# Altium schematic symbol library Datalogger.SchLib: 45 symbols
Pins are listed as number, name and electrical type; pins without a type are passive.

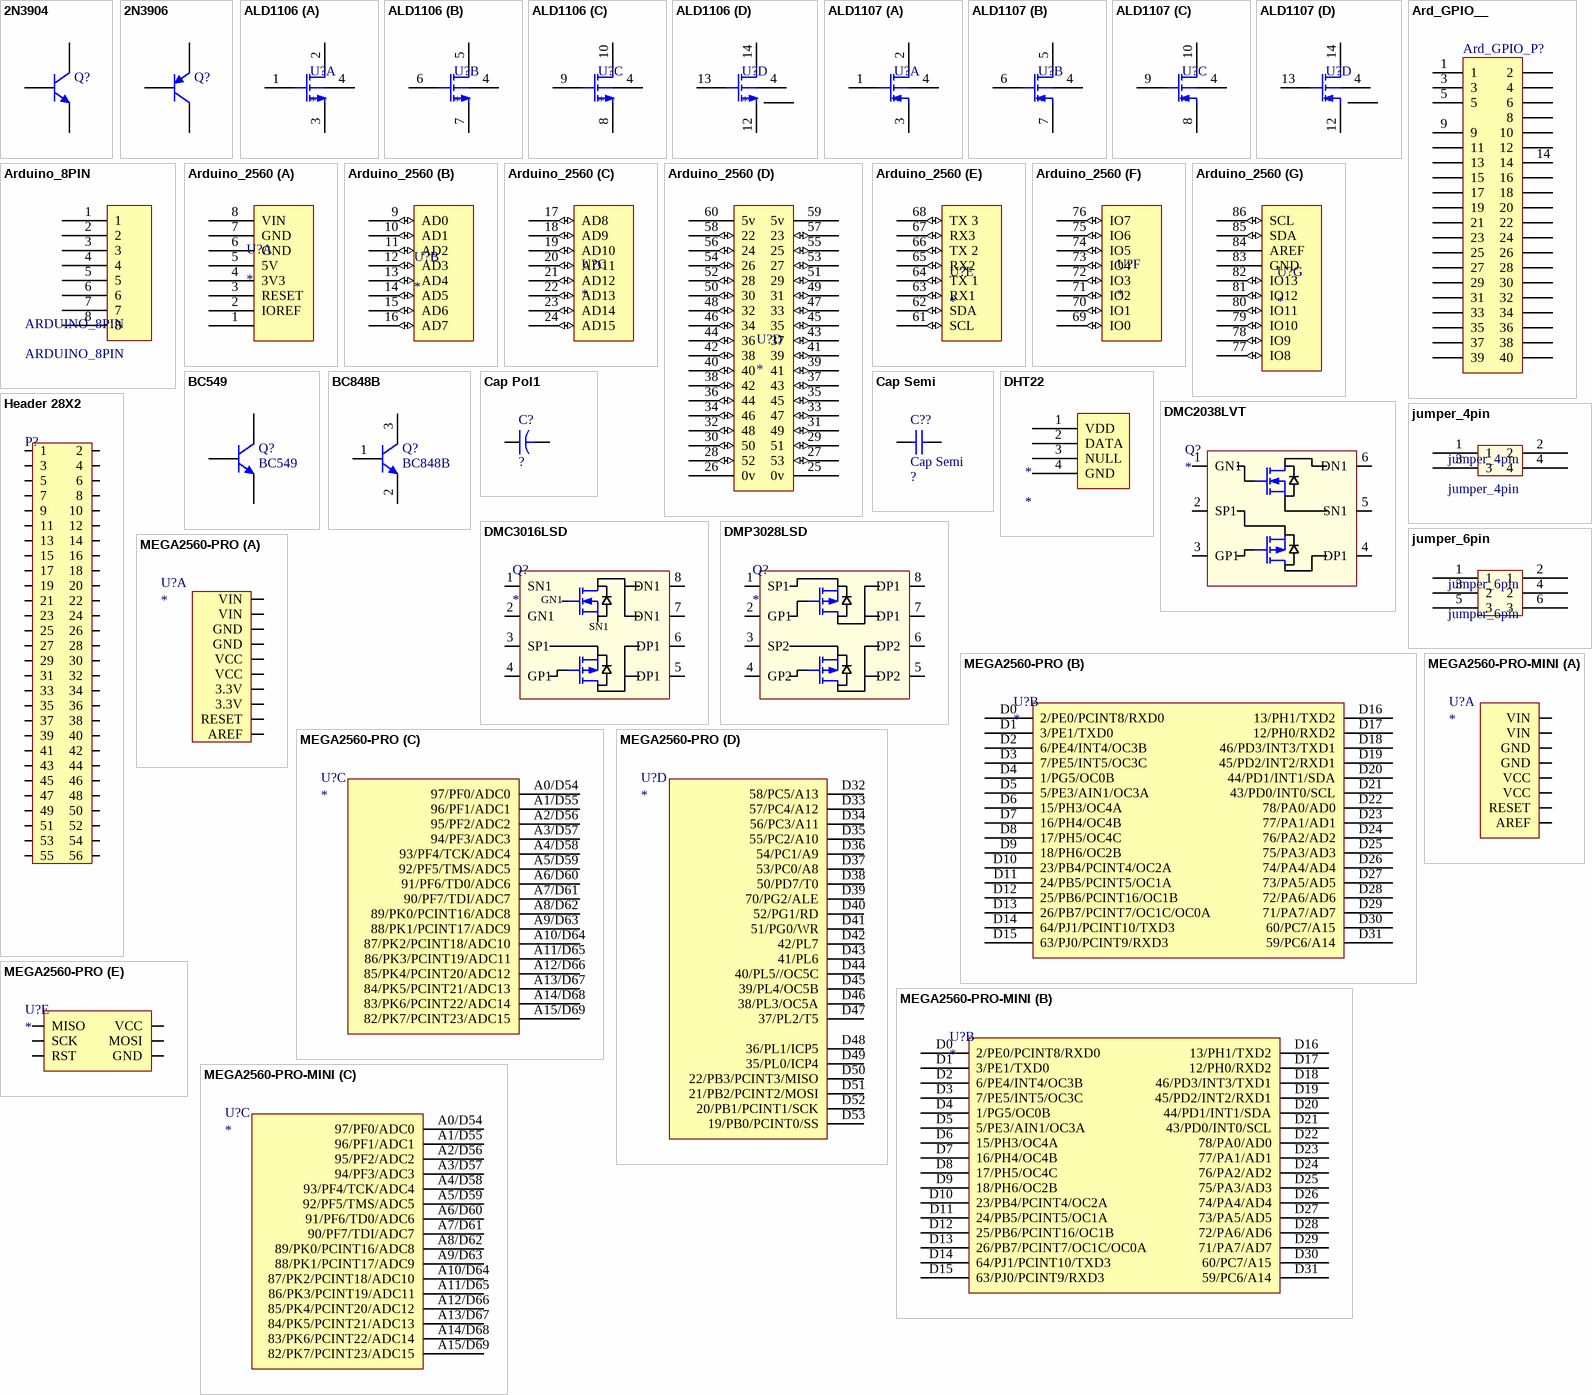
[diagram p0: symbols 2N3904 to MEGA2560-PRO-MINI]

## 2N3904
designator Q?
NPN General Purpose Amplifier; Published: 8-Jun-2000; LatestRevisionDate: 15-Jan-2003; LatestRevisionNote: PCB Footprint 'BCY-W3/D4.7' replaced; DatasheetVersion: 1997; PackageVersion: Sep-1998; PackageReference: TO-92A; Publisher: Altium Limited; PackageDescription: TO, Flat Index; 3 In-Line, Axial Leads; Body Dia. 4.5mm; Leads 0.51 x 0.48 mm (max); ComponentLink1Description: Manufacturer Link; ComponentLink1URL: http://www.fairchildsemi.com/; ComponentLink2Description: Datasheet; ComponentLink2URL: http://www.fairchildsemi.com/ds/2N%2F2N3904.pdf
simulation model 2N3904 (NPN)
signal-integrity model 2N3904
footprint TO-92A_transistor (TO, Flat Index; 3 In-Line, Axial Leads; Body Dia. 4.5mm; Leads 0.51 x 0.48 mm (max))
pins: 1 E, 2 B, 3 C

## 2N3906
designator Q?
PNP General Purpose Amplifier; Published: 8-Jun-2000; LatestRevisionDate: 15-Jan-2003; LatestRevisionNote: PCB Footprint 'BCY-W3/D4.7' replaced; DatasheetVersion: 1997; PackageVersion: Sep-1998; PackageReference: TO-92A; Publisher: Altium Limited; PackageDescription: TO, Flat Index; 3 In-Line, Axial Leads; Body Dia. 4.5mm; Leads 0.51 x 0.48 mm (max); ComponentLink1Description: Manufacturer Link; ComponentLink1URL: http://www.fairchildsemi.com/; ComponentLink2Description: Datasheet; ComponentLink2URL: http://www.fairchildsemi.com/ds/2N%2F2N3906.pdf
simulation model 2N3906 (PNP)
signal-integrity model 2N3906
footprint TO-92A_transistor (TO, Flat Index; 3 In-Line, Axial Leads; Body Dia. 4.5mm; Leads 0.51 x 0.48 mm (max))
pins: 1 E, 2 B, 3 C

## ALD1106
designator U?
footprint PDIP-14 (PDIP, 14-Leads, Body 18.29x6.35mm, Pitch 2.79mm, IPC Medium Density)
part A pins: 1 G, 2 D, 3 S, 4 S
part B pins: 4 S, 5 D, 6 G, 7 S
part C pins: 4 S, 8 S, 9 G, 10 D
part D pins: 4 S, 11 NC, 12 S, 13 G, 14 D

## ALD1107
designator U?
footprint PDIP-14 (PDIP, 14-Leads, Body 18.29x6.35mm, Pitch 2.79mm, IPC Medium Density)
part A pins: 1 G, 2 D, 3 S, 4 S
part B pins: 4 S, 5 D, 6 G, 7 S
part C pins: 4 S, 8 S, 9 G, 10 D
part D pins: 4 S, 11 NC, 12 S, 13 G, 14 D

## Ard_GPIO__
designator Ard_GPIO_P?, comment Ard_GPIO_P?  (value not drawn)
Header, 20-Pin, Dual row; LatestRevisionDate: 17-Jul-2002; LatestRevisionNote: Re-released for DXP Platform.; Publisher: Altium Limited
signal-integrity model Connector
footprint Ard_GPIO_HDR2X20 (Connector; Header; 20x2 Position)
pins: 1, 2, 3, 4, 5, 6, 7 hidden, 8, 9, 10, 11, 12, 13, 14, 15, 16, 17, 18, 19, 20, 21, 22, 23, 24, 25, 26, 27, 28, 29, 30, 31, 32, 33, 34, 35, 36, 37, 38, 39, 40

## Arduino_8PIN
designator ARDUINO_8PIN, comment ARDUINO_8PIN
footprint arduino_8pin (8 pin arduino)
pins: 1, 2, 3, 4, 5, 6, 7, 8

## Arduino_2560
designator U?
footprint Arduino_2560
part A pins: 1, 2 IOREF (power), 3 RESET, 4 3V3 (power), 5 5V (power), 6 GND (power), 7 GND (power), 8 VIN (power)
part B pins: 9 AD0 (io), 10 AD1 (io), 11 AD2 (io), 12 AD3 (io), 13 AD4 (io), 14 AD5 (io), 15 AD6 (io), 16 AD7 (io)
part C pins: 17 AD8 (io), 18 AD9 (io), 19 AD10 (io), 20 AD11 (io), 21 AD12 (io), 22 AD13 (io), 23 AD14 (io), 24 AD15 (io)
part D pins: 25 0v (power), 26 0v (power), 27 53 (io) "Digital 53", 28 52 (io) "Digital 52", 29 51 (io) "Digital 51", 30 50 (io) "Digital 50", 31 49 (io) "Digital 49", 32 48 (io) "Digital 48", 33 47 (io) "Digital 47", 34 46 (io) "Digital 46", 35 45 (io) "Digital 45", 36 44 (io) "Digital 44", 37 43 (io) "Digital 43", 38 42 (io) "Digital 42", 39 41 (io) "Digital 41", 40 (io) "Digital 40", 41 39 (io) "Digital 39", 42 38 (io) "Digital 38", 43 37 (io) "Digital 37", 44 36 (io) "Digital 36", 45 35 (io) "Digital 35", 46 34 (io) "Digital 34", 47 33 (io) "Digital 33", 48 32 (io) "Digital 32", 49 31 (io) "Digital 31", 50 30 (io) "Digital 30", 51 29 (io) "Digital 29", 52 28 (io) "Digital 28", 53 27 (io) "Digital 27", 54 26 (io) "Digital 26", 55 25 (io) "Digital 25", 56 24 (io) "Digital 24", 57 23 (io) "Digital 23", 58 22 (io) "Digital 22", 59 5v (power), 60 5v (power)
part E pins: 61 SCL (io), 62 SDA (io), 63 RX1 (io), 64 TX 1 (io), 65 RX2 (io), 66 TX 2 (io), 67 RX3 (io), 68 TX 3 (io)
part F pins: 69 IO0 (io), 70 IO1 (io), 71 IO2 (io), 72 IO3 (io), 73 IO4 (io), 74 IO5 (io), 75 IO6 (io), 76 IO7 (io)
part G pins: 77 IO8 (io), 78 IO9 (io), 79 IO10 (io), 80 IO11 (io), 81 IO12 (io), 82 IO13 (io), 83 GND (power), 84 AREF, 85 SDA (io), 86 SCL (io)

## BC549
designator Q?
NPN General Purpose Amplifier; Published: 8-Jun-2000; LatestRevisionDate: 15-Jan-2003; LatestRevisionNote: PCB Footprint 'BCY-W3/D4.7' replaced; DatasheetVersion: 1997; PackageVersion: Sep-1998; PackageReference: TO-92A; Publisher: Altium Limited; PackageDescription: TO, Flat Index; 3 In-Line, Axial Leads; Body Dia. 4.5mm; Leads 0.51 x 0.48 mm (max); ComponentLink1Description: Manufacturer Link; ComponentLink1URL: http://www.fairchildsemi.com/; ComponentLink2Description: Datasheet; ComponentLink2URL: http://www.fairchildsemi.com/ds/2N%2F2N3904.pdf
footprint TO-92_BC549 (TO, Flat Index; 3 In-Line, Axial Leads; Body Dia. 4.5mm; Leads 0.51 x 0.48 mm (max))
pins: 1 C, 2 B, 3 E

## BC848B
designator Q?
NPN Silicon AF Transistor, 30 V VCEO, 100 mA IC, SOT23, Reel, Green; Manufacturer: Infineon; fT (typ): 250 MHz; Green: TRUE; IBM (max): 200 mA; IC (max): 100 mA; ICBO (max): 15 nA; Ptot (max): 330 mW; VCBO (max): 30 V; VEBO (max): 6 V; PackageVersion: Apr-08; PackageReference: SOT23; PackageDescription: 3-Pin Small Outline Transistor Package, 1.3 x 2.9 mm Body, 0.95 mm Pitch; ICM (max): 200 mA; Packing: Reel; Polarity: NPN; VCEO (max): 30 V; Mounting Technology: Surface Mount; PartNumber: BC848B; ComponentLink1Description: Manufacturer URL; ComponentLink1URL: http://www.infineon.com/; ComponentLink2Description: Datasheet; ComponentLink2URL: http://www.infineon.com/dgdl/bc847series_bc848series_bc849series_bc850series.pdf?folderId=db3a304314dca389011541d30fa21656&fileId=db3a304314dca389011541d4630a1657; ComponentLink3Description: Package Specification; ComponentLink3URL: http://www.infineon.com/dgdl/SOT23-Package_Overview.pdf?folderId=db3a30431936bc4b0119532290053c66&fileId=db3a30431936bc4b0119533468123c85
footprint SOT23_N (SOT23, 3-Leads, Body 2.9x1.3 mm, Pitch 0.95 mm, IPC Medium Density)
footprint SOT23_L (SOT23, 3-Leads, Body 2.9x1.3 mm, Pitch 0.95 mm, IPC High Density)
footprint SOT23_M (SOT23, 3-Leads, Body 2.9x1.3 mm, Pitch 0.95 mm, IPC Low Density)
pins: 1 B, 2 E, 3 C

## Cap Pol1
designator C?, comment ?
Capacitor; Published: 23-Sep-2002; Publisher: Altium Limited; PackageDescription: Polarized Capacitor; 2 Leads; Value: ?
footprint CAPR5-4X5 (Capacitor; 2 Leads)
simulation model CAP (Capacitor)
signal-integrity model Cap
footprint CAPAE9083X80M (Aluminum Electrolytic Capacitor, Case 8x6.5mm, Body 8.30x8.30x8.00mm, IPC Low Density; Support 4x5.5mm,5x5.5mm, 6.3x5.5mm, 6.3x6.3mm, 6.3x8mm)
pins: 1, 2

## Cap Semi
designator C??
Capacitor (Semiconductor SIM Model); Published: 8-Jun-2000; LatestRevisionDate: 29-May-2009; LatestRevisionNote: IPC-7351 Footprint Added.; PackageReference: C1206; Publisher: Altium Limited; PackageDescription: Chip Capacitor; Value: ?
footprint C1206 (Chip Capacitor, Body 3.2x1.6mm, IPC High Density)
footprint 0402 (Chip Capacitor, Body 1.0x0.5mm, IPC High Density)
footprint C2512 (Chip Capacitor, Body 2.54x1.27mm, IPC High Density)
footprint 1608[0603] (Chip Capacitor, Body 1.6x0.8mm, IPC High Density)
footprint C1210 (Chip Capacitor, Body 3.2x2.5mm, IPC High Density)
simulation model CAP (Semiconductor Capacitor)
signal-integrity model Cap Semi
footprint C0805 (Chip Capacitor, Body 2.0x1.3mm, IPC High Density)
footprint RES-1206_M (Chip Resistor, 2-Leads, Body 3.2x1.6mm, IPC Low Density, 0805 Compliant)
pins: 1, 2

## DHT22
designator *
footprint DHT22
footprint DHT22_HORIZONTAL
pins: 1 VDD, 2 DATA, 3 NULL, 4 GND

## DMC2038LVT
designator Q?
MOSFET N/P-CH 20V, TSOT26, VgMax=12V, Max Drain Resistance (56 mΩ, 168 mΩ); Manufacturer: Diodes; Manufacturer Part Number: DMC2038LVT-7; Continuous Drain Current (ID): 2.6A; Max Power Dissipation: 800mW; Rds On Max: 35mR; Input Capacitance: 530pF; Gate to Source Voltage (Vgs): 12V; FET Type: N and P-Channel; Turn-Off Delay Time: 21ns; Number of Elements: 2; Power Dissipation: 1.1W; Drain to Source Resistance: 74mR; Turn-On Delay Time: 11ns; Polarity: N-CHANNEL,P-CHANNEL; RoHS: Yes; Category: MOSFETs; Mount: Surface Mount; Case/Package: TSOT; Number of Pins: 6; Contact Plating: Gold; Min Operating Temperature: -55°C; Max Operating Temperature: 150°C; Drain to Source Voltage (Vdss): 20V; Packaging: Tape and Reel; Drain to Source Breakdown Voltage: 20V; Number of Channels: 2; On-State Resistance: 74mR; Drain-source On Resistance-Max: 74mR; Length: 2.95mm; Width: 1.65mm; Height: 0.9mm; Radiation Hardening: No; REACH SVHC: No SVHC; RoHS Compliant: Yes; Lead Free: Lead Free
footprint TSOT26_SOT-23-6_SOT95P280X100-6N (TSOT26, SOT-23-6, 6-Leads, Body 2.90x2.80mm, Pitch 0.95mm, IPC Medium Density)
pins: 1 GN1, 2 SP1, 3 GP1, 4 DP1, 5 SN1, 6 DN1

## DMC3016LSD
designator Q?
MOSFET N/P-CH 30V 8.2A/6.2A 8SO; Manufacturer: Diodes; Manufacturer Part Number: DMC3016LSD-13; Continuous Drain Current (ID): 6.2A; Rds On Max: 16mR; Input Capacitance: 1.415nF; Max Power Dissipation: 1.2W; Number of Channels: 2; Drain to Source Resistance: 30mR; Gate to Source Voltage (Vgs): 20V; Fall Time: 40.4ns; Rise Time: 17.1ns; Turn-Off Delay Time: 60.5ns; Turn-On Delay Time: 9.7ns; FET Type: N and P-Channel; RoHS: Yes; Category: MOSFETs; Mount: Surface Mount; Case/Package: SOIC; Number of Pins: 8; Weight: 0.00261oz; Min Operating Temperature: -55°C; Max Operating Temperature: 150°C; Packaging: Tape and Reel; Drain to Source Voltage (Vdss): 30V; Drain to Source Breakdown Voltage: 30V; Package Quantity: 2500; Lead Free: Lead Free; RoHS Compliant: Yes; ComponentLink1URL: http://www.mouser.com/ds/2/115/DMC3016LSD-364397.pdf?src-supplier=Mouser; ComponentLink1Description: http://www.mouser.com/ds/2/115/DMC3016LSD-364397.pdf?src-supplier=Mouser; ComponentLink2URL: https://www.diodes.com/assets/Datasheets/DMC3016LSD.pdf?src-supplier=Digi-Key; ComponentLink2Description: https://www.diodes.com/assets/Datasheets/DMC3016LSD.pdf?src-supplier=Digi-Key
footprint SOIC-8_SOIC127P600X175-8N (SOIC, 8-Leads, Body 4.90x3.90mm, Pitch 1.27mm, IPC Medium Density)
pins: 1 SN1, 2 GN1, 3 SP1, 4 GP1, 5 DP1, 6 DP1, 7 DN1, 8 DN1

## DMP3028LSD
designator Q?
MOSFET 2P-CH 30V 6A SO-8, VgMax=20V, Max Drain Resistance (38 mΩ); Manufacturer: Diodes; Manufacturer Part Number: DMP3028LSD-13; Rds On Max: 25mR; Input Capacitance: 1.241nF; Max Power Dissipation: 1.3W; RoHS: Yes; Category: MOSFETs; Mount: Surface Mount; Case/Package: SOIC; Min Operating Temperature: -55°C; Max Operating Temperature: 150°C; Packaging: Tape and Reel; Drain to Source Voltage (Vdss): 30V; Continuous Drain Current (ID): 6A; RoHS Compliant: Yes; ComponentLink1URL: http://www.mouser.com/ds/2/115/DMP3028LSD-776487.pdf?src-supplier=Mouser; ComponentLink1Description: http://www.mouser.com/ds/2/115/DMP3028LSD-776487.pdf?src-supplier=Mouser; ComponentLink2URL: https://www.diodes.com/assets/Datasheets/DMP3028LSD.pdf?src-supplier=Digi-Key; ComponentLink2Description: https://www.diodes.com/assets/Datasheets/DMP3028LSD.pdf?src-supplier=Digi-Key
footprint SOIC-8_SOIC127P600X175-8N (SOIC, 8-Leads, Body 4.90x3.90mm, Pitch 1.27mm, IPC Medium Density)
pins: 1 SP1, 2 GP1, 3 SP2, 4 GP2, 5 DP2, 6 DP2, 7 DP1, 8 DP1

## Header 28X2
designator P?
Header, 28-Pin, Dual row; System: Connector; LatestRevisionDate: 17-Jul-2002; LatestRevisionNote: Re-released for DXP Platform.; Publisher: Altium Limited
signal-integrity model Connector
footprint HDR2X28 (Connector; Header; 28x2 Position)
pins: 1, 2, 3, 4, 5, 6, 7, 8, 9, 10, 11, 12, 13, 14, 15, 16, 17, 18, 19, 20, 21, 22, 23, 24, 25, 26, 27, 28, 29, 30, 31, 32, 33, 34, 35, 36, 37, 38, 39, 40, 41, 42, 43, 44, 45, 46, 47, 48, 49, 50, 51, 52, 53, 54, 55, 56

## jumper_4pin
designator jumper_4pin
footprint JUMPER_4pin
pins: 1 (power), 2 (power), 3 (power), 4 (power)

## jumper_6pin
designator jumper_6pin
footprint JUMPER_6pin
pins: 1 (power), 2 1 (power), 3 2 (power), 4 2 (power), 5 3, 6 3

## MEGA2560-PRO
designator U?
RoboDyn Mega2560 Pro (Embed) CH340G; ComponentLink1Description: Robodyn; ComponentLink1URL: https://robotdyn.com/mega-2560-pro-embed-ch340g-atmega2560-16au.html
footprint MEGA2560PRO-EMBED
footprint MEGA2560PRO-EMBED-IO
part A pins: 3.3V@1 3.3V (power), 3.3V@2 3.3V (power), AREF, GND@1 GND, GND@2 GND, RST@1 RESET, VCC@1 VCC (power) "5V", VCC@2 VCC (power) "5V", VIN@1 VIN, VIN@2 VIN
part B pins: D0 2/PE0/PCINT8/RXD0, D1 3/PE1/TXD0, D2 6/PE4/INT4/OC3B, D3 7/PE5/INT5/OC3C, D4 1/PG5/OC0B, D5 5/PE3/AIN1/OC3A, D6 15/PH3/OC4A, D7 16/PH4/OC4B, D8 17/PH5/OC4C, D9 18/PH6/OC2B, D10 23/PB4/PCINT4/OC2A, D11 24/PB5/PCINT5/OC1A, D12 25/PB6/PCINT16/OC1B, D13 26/PB7/PCINT7/OC1C/OC0A, D14 64/PJ1/PCINT10/TXD3, D15 63/PJ0/PCINT9/RXD3, D16 13/PH1/TXD2, D17 12/PH0/RXD2, D18 46/PD3/INT3/TXD1, D19 45/PD2/INT2/RXD1, D20 44/PD1/INT1/SDA, D21 43/PD0/INT0/SCL, D22 78/PA0/AD0, D23 77/PA1/AD1, D24 76/PA2/AD2, D25 75/PA3/AD3, D26 74/PA4/AD4, D27 73/PA5/AD5, D28 72/PA6/AD6, D29 71/PA7/AD7, D30 60/PC7/A15, D31 59/PC6/A14
part C pins: A0/D54 97/PF0/ADC0, A1/D55 96/PF1/ADC1, A2/D56 95/PF2/ADC2, A3/D57 94/PF3/ADC3, A4/D58 93/PF4/TCK/ADC4, A5/D59 92/PF5/TMS/ADC5, A6/D60 91/PF6/TD0/ADC6, A7/D61 90/PF7/TDI/ADC7, A8/D62 89/PK0/PCINT16/ADC8, A9/D63 88/PK1/PCINT17/ADC9, A10/D64 87/PK2/PCINT18/ADC10, A11/D65 86/PK3/PCINT19/ADC11, A12/D66 85/PK4/PCINT20/ADC12, A13/D67 84/PK5/PCINT21/ADC13, A14/D68 83/PK6/PCINT22/ADC14, A15/D69 82/PK7/PCINT23/ADC15
part D pins: D32 58/PC5/A13, D33 57/PC4/A12, D34 56/PC3/A11, D35 55/PC2/A10, D36 54/PC1/A9, D37 53/PC0/A8, D38 50/PD7/T0, D39 70/PG2/ALE, D40 52/PG1/RD, D41 51/PG0/WR, D42 42/PL7, D43 41/PL6, D44 40/PL5//OC5C, D45 39/PL4/OC5B, D46 38/PL3/OC5A, D47 37/PL2/T5, D48 36/PL1/ICP5, D49 35/PL0/ICP4, D50 22/PB3/PCINT3/MISO, D51 21/PB2/PCINT2/MOSI, D52 20/PB1/PCINT1/SCK, D53 19/PB0/PCINT0/SS
part E pins: 5V@3 VCC "5V", GND@3 GND, MISO, MOSI, RESET RST, SCK

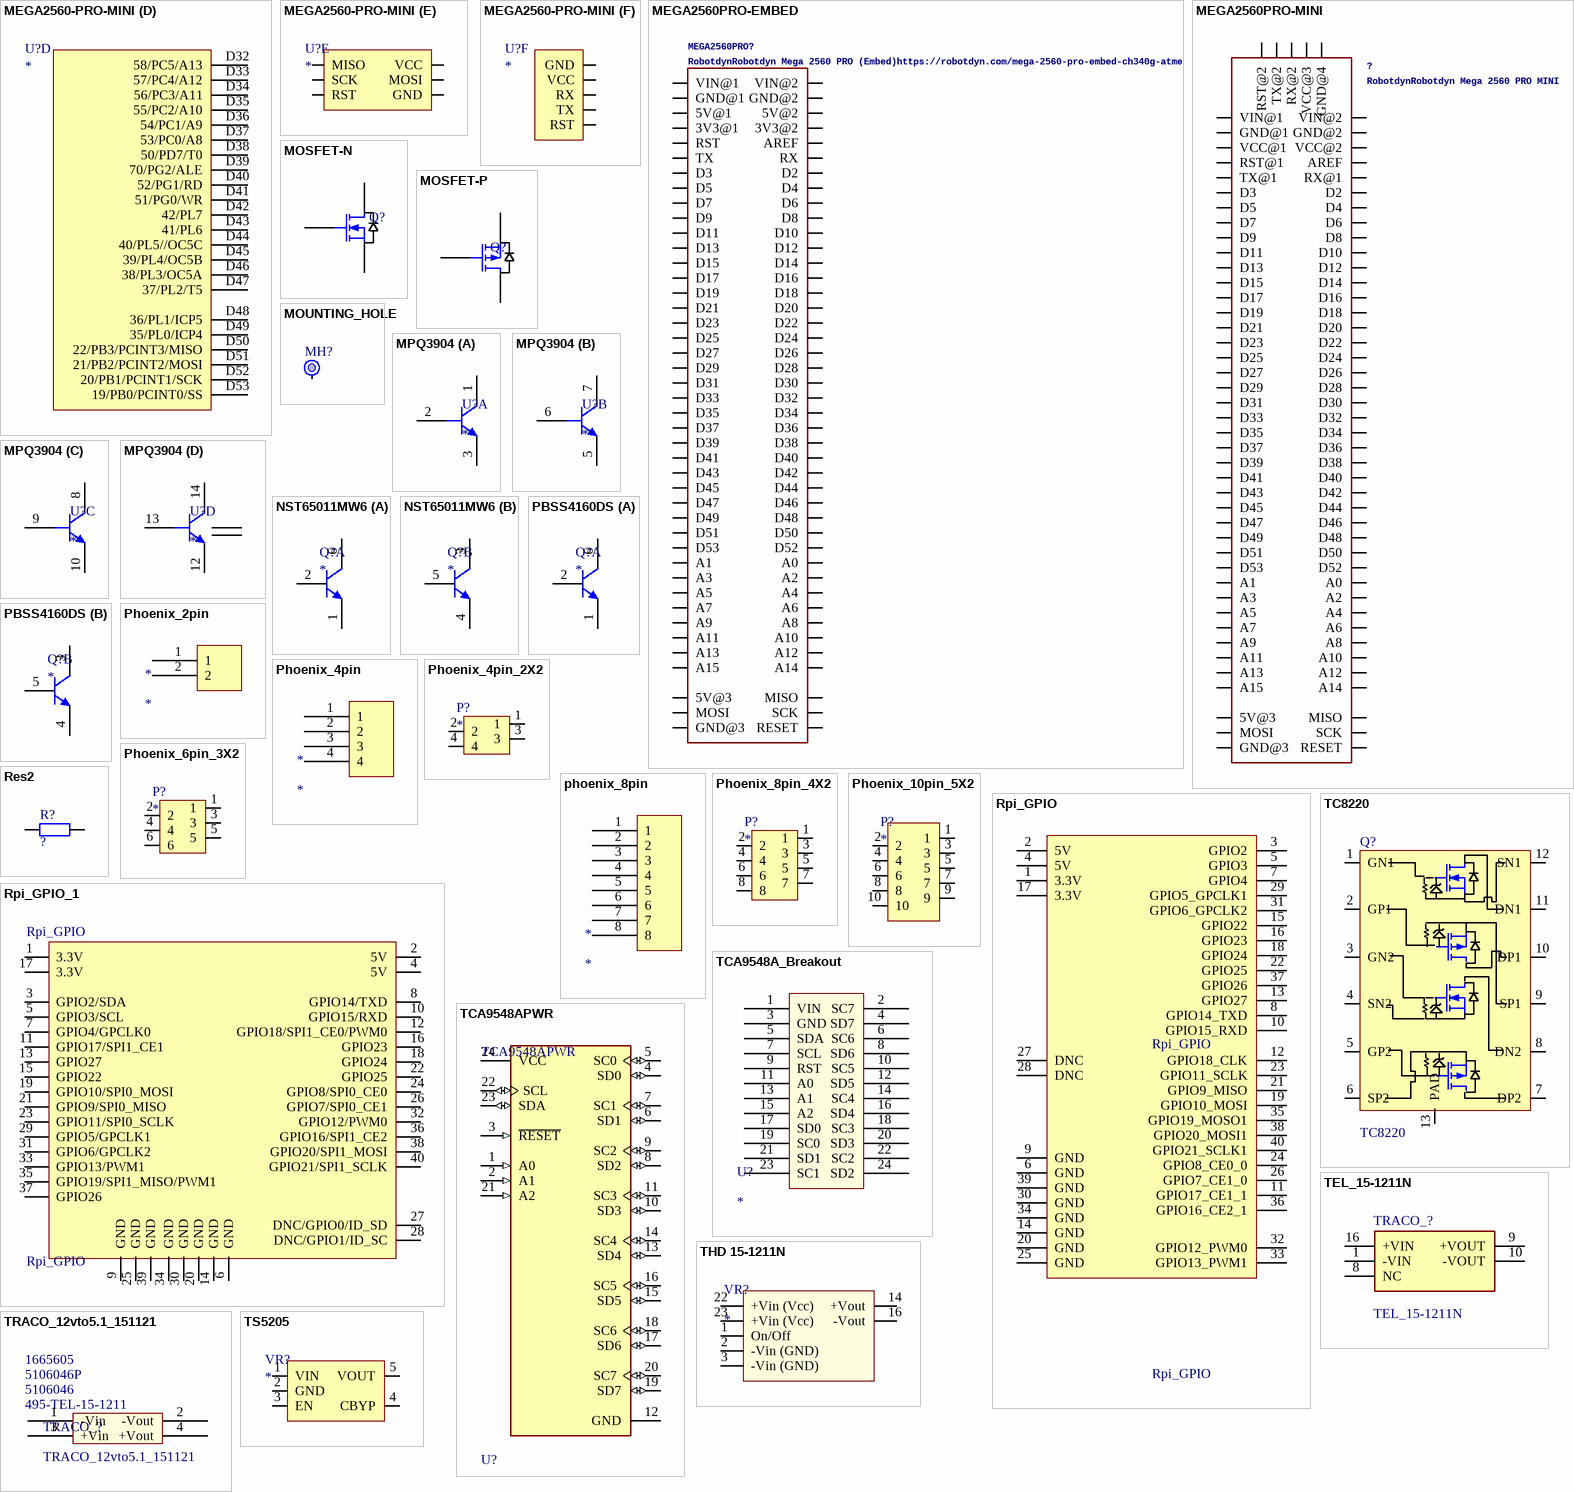
[diagram p1: symbols MEGA2560-PRO-MINI to TS5205]

## MEGA2560-PRO-MINI
designator U?
RoboDyn Mega2560 Pro Mini, Either 5V or 3.3V incorporated regulator; ComponentLink1Description: Robodyn; ComponentLink1URL: https://robotdyn.com/mega-2560-pro-mini-atmega2560-16au.html
footprint MEGA2560PRO-MINI
footprint MEGA2560PRO-MINI-IO (IO breakout of RobotDyn MEGA2560PRO-MINI, does not include ICSP and Serial programmer headers)
part A pins: AREF, GND@1 GND, GND@2 GND, RST@1 RESET, VCC@1 VCC (power) "Either 5V or 3.3V", VCC@2 VCC (power) "Either 5V or 3.3V", VIN@1 VIN, VIN@2 VIN
part B pins: D0 2/PE0/PCINT8/RXD0, D1 3/PE1/TXD0, D2 6/PE4/INT4/OC3B, D3 7/PE5/INT5/OC3C, D4 1/PG5/OC0B, D5 5/PE3/AIN1/OC3A, D6 15/PH3/OC4A, D7 16/PH4/OC4B, D8 17/PH5/OC4C, D9 18/PH6/OC2B, D10 23/PB4/PCINT4/OC2A, D11 24/PB5/PCINT5/OC1A, D12 25/PB6/PCINT16/OC1B, D13 26/PB7/PCINT7/OC1C/OC0A, D14 64/PJ1/PCINT10/TXD3, D15 63/PJ0/PCINT9/RXD3, D16 13/PH1/TXD2, D17 12/PH0/RXD2, D18 46/PD3/INT3/TXD1, D19 45/PD2/INT2/RXD1, D20 44/PD1/INT1/SDA, D21 43/PD0/INT0/SCL, D22 78/PA0/AD0, D23 77/PA1/AD1, D24 76/PA2/AD2, D25 75/PA3/AD3, D26 74/PA4/AD4, D27 73/PA5/AD5, D28 72/PA6/AD6, D29 71/PA7/AD7, D30 60/PC7/A15, D31 59/PC6/A14
part C pins: A0/D54 97/PF0/ADC0, A1/D55 96/PF1/ADC1, A2/D56 95/PF2/ADC2, A3/D57 94/PF3/ADC3, A4/D58 93/PF4/TCK/ADC4, A5/D59 92/PF5/TMS/ADC5, A6/D60 91/PF6/TD0/ADC6, A7/D61 90/PF7/TDI/ADC7, A8/D62 89/PK0/PCINT16/ADC8, A9/D63 88/PK1/PCINT17/ADC9, A10/D64 87/PK2/PCINT18/ADC10, A11/D65 86/PK3/PCINT19/ADC11, A12/D66 85/PK4/PCINT20/ADC12, A13/D67 84/PK5/PCINT21/ADC13, A14/D68 83/PK6/PCINT22/ADC14, A15/D69 82/PK7/PCINT23/ADC15
part D pins: D32 58/PC5/A13, D33 57/PC4/A12, D34 56/PC3/A11, D35 55/PC2/A10, D36 54/PC1/A9, D37 53/PC0/A8, D38 50/PD7/T0, D39 70/PG2/ALE, D40 52/PG1/RD, D41 51/PG0/WR, D42 42/PL7, D43 41/PL6, D44 40/PL5//OC5C, D45 39/PL4/OC5B, D46 38/PL3/OC5A, D47 37/PL2/T5, D48 36/PL1/ICP5, D49 35/PL0/ICP4, D50 22/PB3/PCINT3/MISO, D51 21/PB2/PCINT2/MOSI, D52 20/PB1/PCINT1/SCK, D53 19/PB0/PCINT0/SS
part E pins: 5V@3 VCC, GND@3 GND, MISO, MOSI, RESET RST, SCK
part F pins: GND@4 GND, RST@2 RST, RX@2 RX, TX@2 TX, VCC@8 VCC

## MEGA2560PRO-EMBED
designator MEGA2560PRO?, comment RobotdynRobotdyn Mega 2560 PRO (Embed)https://robotdyn.com/mega-2560-pro-embed-ch340g-atmega2560-16au.html
GateName_1: G$1; SymbolName_1: MEGA2560PRO-EMBED; LibraryName: robotdyn; DeviceSetName: MEGA2560PRO-EMBED; Package: MEGA2560PRO-EMBED
footprint MEGA2560PRO-EMBED
pins: 3V3@1, 3V3@2, 5V@1, 5V@2, 5V@3, A0, A1, A2, A3, A4, A5, A6, A7, A8, A9, A10, A11, A12, A13, A14, A15, AREF, D2, D3, D4, D5, D6, D7, D8, D9, D10, D11, D12, D13, D14, D15, D16, D17, D18, D19, D20, D21, D22, D23, D24, D25, D26, D27, D28, D29, D30, D31, D32, D33, D34, D35, D36, D37, D38, D39, D40, D41, D42, D43, D44, D45, D46, D47, D48, D49, D50, D51, D52, D53, GND@1, GND@2, GND@3, MISO, MOSI, RESET, RST, RX, SCK, TX, VIN@1, VIN@2

## MEGA2560PRO-MINI
designator ?, comment RobotdynRobotdyn Mega 2560 PRO MINI
GateName_1: G$1; SymbolName_1: MEGA2560PRO-MINI; LibraryName: robotdyn; DeviceSetName: MEGA2560PRO-MINI; Package: MEGA2560PRO-MINI
footprint MEGA2560PRO-MINI
pins: 5V@3, A0, A1, A2, A3, A4, A5, A6, A7, A8, A9, A10, A11, A12, A13, A14, A15, AREF, D2, D3, D4, D5, D6, D7, D8, D9, D10, D11, D12, D13, D14, D15, D16, D17, D18, D19, D20, D21, D22, D23, D24, D25, D26, D27, D28, D29, D30, D31, D32, D33, D34, D35, D36, D37, D38, D39, D40, D41, D42, D43, D44, D45, D46, D47, D48, D49, D50, D51, D52, D53, GND@1, GND@2, GND@3, GND@4, MISO, MOSI, RESET, RST@1, RST@2, RX@1, RX@2, SCK, TX@1, TX@2, VCC@1, VCC@2, VCC@3, VIN@1, VIN@2

## MOSFET-N
designator Q?
N-Channel MOSFET; PackageVersion: 1995/1996; PackageReference: TO-220AB; PackageDescription: TO, Thru-Hole; 3 In-Line Leads; Pitch 2.54 mm
simulation model NMOS (MOSFET-N)
footprint TO-220AB_NMOS_TABDOWN (TO, Thru-Hole, Horizontal, Heatsink Mounted; 3 In-Line Leads; Pitch 2.54 mm); pin to pad 1>G 2>S 3>D
footprint TO-220AB-NMOS (TO, Thru-Hole, Vertical, Heatsink Mounted; 3 In-Line Leads; Pitch 2.54 mm); pin to pad 1>G 2>S 3>D
footprint SOT23_N (SOT23, 3-Leads, Body 2.9x1.3 mm, Pitch 0.95 mm, IPC Medium Density)
footprint SOT23_M (SOT23, 3-Leads, Body 2.9x1.3 mm, Pitch 0.95 mm, IPC Low Density)
footprint SOT23_L (SOT23, 3-Leads, Body 2.9x1.3 mm, Pitch 0.95 mm, IPC High Density)
pins: 1 G, 2 S, 3 D

## MOSFET-P
designator Q?
P-Channel MOSFET; PackageVersion: 1995/1996; PackageReference: TO-220AB; PackageDescription: TO, Thru-Hole; 3 In-Line Leads; Pitch 2.54 mm
simulation model PMOS (MOSFET-P)
footprint TO-220AB_PMOS_TABDOWN (TO, Thru-Hole, Horizontal, Heatsink Mounted; 3 In-Line Leads; Pitch 2.54 mm); pin to pad 1>G 2>S 3>D
footprint TO-220AB-PMOS (TO, Thru-Hole, Vertical, Heatsink Mounted; 3 In-Line Leads; Pitch 2.54 mm); pin to pad 1>G 2>S 3>D
footprint SOT23_L (SOT23, 3-Leads, Body 2.9x1.3 mm, Pitch 0.95 mm, IPC High Density)
footprint SOT23_M (SOT23, 3-Leads, Body 2.9x1.3 mm, Pitch 0.95 mm, IPC Low Density)
footprint SOT23_N (SOT23, 3-Leads, Body 2.9x1.3 mm, Pitch 0.95 mm, IPC Medium Density)
pins: 1 G, 2 S, 3 D

## MOUNTING_HOLE
designator MH?  (value not drawn)  (no BOM)
footprint M2.5 (M2.5 Screw Mounting Hole, 5mm Head Diameter)
footprint M3 (M3 Screw Mounting Hole, 6mm Head Diameter Clearance)
footprint M4 (M4 Screw Mounting Hole, 7mm Head Diameter Clearance)
pins: 0

## MPQ3904
designator U?
footprint PDIP-14 (PDIP, 14-Leads, Body 18.29x6.35mm, Pitch 2.79mm, IPC Medium Density)
part A pins: 1 G, 2 D, 3 S
part B pins: 5 D, 6 G, 7 S
part C pins: 8 S, 9 G, 10 D
part D pins: 4 NC, 11 NC, 12 S, 13 G, 14 D

## NST65011MW6
designator Q?
Dual NPN Matched General Purpose Transistor
footprint SOT-363 (SC-88)
part A pins: 1 E, 2 B, 6 C
part B pins: 3 C, 4 E, 5 B

## PBSS4160DS
designator Q?
60V, 1A NPN/NPN low Vcesat (BISS) Transistor
footprint SOT23-6_N (SOT23, 6-Leads, Body 2.9x1.6mm, Pitch 0.95mm, Lead Span 2.7mm, IPC Medium Density)
part A pins: 1 E, 2 B, 6 C
part B pins: 3 C, 4 E, 5 B

## Phoenix_2pin
designator *
footprint PHOENIX_2PIN
pins: 1, 2

## Phoenix_4pin
designator *
footprint PHOENIX_4PIN
pins: 1, 2, 3, 4

## Phoenix_4pin_2X2
designator P?
footprint MKKDSN_4PIN-2POS_5.08PITCH_1.5WIRE (Phoenix MKKDSN 5.08mm Pitch, 2-Position, 4 Pin, 1.5mm Wire Cross)
pins: 1, 2, 3, 4

## Phoenix_6pin_3X2
designator P?
footprint MKKDSN_6PIN-3POS_5.08PITCH_1.5WIRE (Phoenix MKKDSN 5.08mm Pitch, 3-Position, 6 Pin, 1.5mm Wire Cross)
pins: 1, 2, 3, 4, 5, 6

## phoenix_8pin
designator *
footprint Phoenix_8pin
pins: 1, 2, 3, 4, 5, 6, 7, 8

## Phoenix_8pin_4X2
designator P?
footprint MKKDSN_8PIN-4POS_5.08PITCH_1.5WIRE (Phoenix MKKDSN 5.08mm Pitch, 4-Position, 8 Pin, 1.5mm Wire Cross)
pins: 1, 2, 3, 4, 5, 6, 7, 8

## Phoenix_10pin_5X2
designator P?
footprint MKKDSN_10PIN-5POS_5.08PITCH_1.5WIRE (Phoenix MKKDSN 5.08mm Pitch, 5-Position, 10 Pin, 1.5mm Wire Cross)
pins: 1, 2, 3, 4, 5, 6, 7, 8, 9, 10

## Res2
designator R?, comment ?
Resistor; Published: 8-Jun-2000; LatestRevisionDate: 17-Jul-2002; LatestRevisionNote: Re-released for DXP Platform.; PackageReference: 1206; Publisher: Altium Limited; PackageDescription: Chip Resistor 1206 Case Size; Value: ?
footprint AXIAL-0.4 (Axial Device, Thru-Hole; 2 Leads; 0.4 in Pin Spacing)
simulation model RESISTOR (Resistor)
signal-integrity model Res
footprint 6-0805_N (Chip Resistor, Body 2.0x1.2mm, IPC Medium Density)
footprint 6-0805_M (Chip Resistor, Body 2.0x1.2mm, IPC Low Density)
footprint RES-1206_M (Chip Resistor, 2-Leads, Body 3.2x1.6mm, IPC Low Density, 0805 Compliant)
footprint 6-0805_L (Chip Resistor, Body 2.0x1.2mm, IPC High Density)
footprint 0805-2012X145N (Chip Non Polarized, 2-Leads, Body 2.00x1.25mm, Imperial 0805, Metric 2012, IPC Medium Density)
pins: 1, 2

## Rpi_GPIO
designator Rpi_GPIO
Header, 20-Pin, Dual row; LatestRevisionDate: 17-Jul-2002; LatestRevisionNote: Re-released for DXP Platform.; Publisher: Altium Limited
signal-integrity model Connector
footprint Ard_GPIO_HDR2X20 (Connector; Header; 20x2 Position)
pins: 1 3.3V, 2 5V, 3 GPIO2, 4 5V, 5 GPIO3, 6 GND, 7 GPIO4, 8 GPIO14_TXD, 9 GND, 10 GPIO15_RXD, 11 GPIO17_CE1_1, 12 GPIO18_CLK, 13 GPIO27, 14 GND, 15 GPIO22, 16 GPIO23, 17 3.3V, 18 GPIO24, 19 GPIO10_MOSI, 20 GND, 21 GPIO9_MISO, 22 GPIO25, 23 GPIO11_SCLK, 24 GPIO8_CE0_0, 25 GND, 26 GPIO7_CE1_0, 27 DNC, 28 DNC, 29 GPIO5_GPCLK1, 30 GND, 31 GPIO6_GPCLK2, 32 GPIO12_PWM0, 33 GPIO13_PWM1, 34 GND, 35 GPIO19_MOSO1, 36 GPIO16_CE2_1, 37 GPIO26, 38 GPIO20_MOSI1, 39 GND, 40 GPIO21_SCLK1

## Rpi_GPIO_1
designator Rpi_GPIO, comment Rpi_GPIO
Header, 20-Pin, Dual row; LatestRevisionDate: 17-Jul-2002; LatestRevisionNote: Re-released for DXP Platform.; Publisher: Altium Limited
signal-integrity model Connector
footprint RPI_GPIO_HDR2X20 (Connector; Header; 20x2 Position)
footprint RPI_Z_GPIO_HDR2X20 (Connector; Header; 20x2 Position)
pins: 1 3.3V, 2 5V, 3 GPIO2/SDA, 4 5V, 5 GPIO3/SCL, 6 GND, 7 GPIO4/GPCLK0, 8 GPIO14/TXD, 9 GND, 10 GPIO15/RXD, 11 GPIO17/SPI1_CE1, 12 GPIO18/SPI1_CE0/PWM0, 13 GPIO27, 14 GND, 15 GPIO22, 16 GPIO23, 17 3.3V, 18 GPIO24, 19 GPIO10/SPI0_MOSI, 20 GND, 21 GPIO9/SPI0_MISO, 22 GPIO25, 23 GPIO11/SPI0_SCLK, 24 GPIO8/SPI0_CE0, 25 GND, 26 GPIO7/SPI0_CE1, 27 DNC/GPIO0/ID_SD, 28 DNC/GPIO1/ID_SC, 29 GPIO5/GPCLK1, 30 GND, 31 GPIO6/GPCLK2, 32 GPIO12/PWM0, 33 GPIO13/PWM1, 34 GND, 35 GPIO19/SPI1_MISO/PWM1, 36 GPIO16/SPI1_CE2, 37 GPIO26, 38 GPIO20/SPI1_MOSI, 39 GND, 40 GPIO21/SPI1_SCLK

## TC8220
designator Q?
Two pair, N- & P-Channel Enhancement MOSFET
footprint DFN400X400X100-12 (12-Lead DFN Plastic Package (4mm x 4mm) 0.5mm Pitch)
pins: 1 GN1, 2 GP1, 3 GN2, 4 SN2, 5 GP2, 6 SP2, 7 DP2, 8 DN2, 9 SP1, 10 DP1, 11 DN1, 12 SN1, 13 PAD

## TCA9548A_Breakout
designator U?
Adafruit TCA9548A 1-to-8 I2C Multiplexer Breakout
footprint tca9548
pins: 1 VIN, 2 SC7, 3 GND, 4 SD7, 5 SDA, 6 SC6, 7 SCL, 8 SD6, 9 RST, 10 SC5, 11 A0, 12 SD5, 13 A1, 14 SC4, 15 A2, 16 SD4, 17 SD0, 18 SC3, 19 SC0, 20 SD3, 21 SD1, 22 SC2, 23 SC1, 24 SD2

## TCA9548APWR
designator U?
8-channel 1.65- to 5.5-V I2C/SMBus switch with reset & voltage translation 24-TSSOP -40 to 85; Manufacturer: Texas Instruments; Number Of Circuits: 1; Mux Demux Ratio: 1:8; Nominal Supply Current: 2-50uA; Interface: I2C,SMBus; Min Supply Voltage: 1.65V; Standoff Height: 0.05mm; Max Supply Voltage: 5.5V; Max Supply Current: 80µA; Device Class L2: Interface ICs; ComponentLink2Description: Datasheet; Ipc Land Pattern Name: SOP65P640X120-24; Category: IC; Device Class L1: Integrated Circuits (ICs); Manufacturer Part Number: TCA9548APWR; RoHS: TRUE; Temperature Range High: +85°C; Digikey Description: IC I2C SW 8CH W/RESET 24TSSOP; Temperature Range Low: -40°C; Lead Free: Yes; Package: PW0024A; ComponentLink2URL: http://www.ti.com/lit/ds/symlink/tca9548a.pdf; Device Class L3: Multiplexers; Ambient Temperature Range Low: -40°C; Mouser Description: Low-Voltage 8-Channel I2C Switch With Reset 24-TSSOP -40 to 85; Temperature: -40°C to +85°C; Octopart: https://octopart.com/tca9548apwr-texas+instruments-22266789; Ambient Temperature Range High: +85°C; Automotive: No; Height: 1.2mm; Case/Package: TSSOP; Independent Circuits: 1; Length: 7.8mm; Max Operating Temperature: 85°C; Min Operating Temperature: -40°C; Pins: 24; REACH SVHC: No; Supplier 1: Arrow Electronics; Supplier 2: Mouser; Supplier Part Number 1: TCA9548APWR; Supplier Part Number 2: 595-TCA9548APWR
footprint TSSOP-24_FP-PW0024A-MFG (24-pin TSSOP (Thin Shrink Small Outline Package), Texas Instruments Recommended, 0.65 mm pitch. FP-PW0024A-MFG, JEDEC MO-153)
footprint TSSOP-24_N (24-pin TSSOP (Thin Shrink Small Outline Package), 0.65 mm pitch, FP-PW0024A-IPC_B, Medium Density)
footprint FP-PW0024A-IPC_A (Footprint not found)
footprint FP-PW0024A-IPC_B (Footprint not found)
footprint FP-PW0024A-IPC_C (Footprint not found)
footprint FP-PW0024A-MFG (Footprint not found)
pins: 1 A0 (in), 2 A1 (in), 3 ~{RESET} (in), 4 SD0 (io), 5 SC0 (io), 6 SD1 (io), 7 SC1 (io), 8 SD2 (io), 9 SC2 (io), 10 SD3 (io), 11 SC3 (io), 12 GND (power), 13 SD4 (io), 14 SC4 (io), 15 SD5 (io), 16 SC5 (io), 17 SD6 (io), 18 SC6 (io), 19 SD7 (io), 20 SC7 (io), 21 A2 (in), 22 SCL (io), 23 SDA (io), 24 VCC (power)

## TEL_15-1211N
designator TRACO_?
15 Watt DC/DC converter, industrial, 2:1 input, ultra compact design, encapsulated, DIP-16 metal package; Manufacturer_Name: Traco Power; Manufacturer_Part_Number: TEL 15-1211N; Geometry.Height: 10.7mm; Mouser Part Number: 495-TEL15-1211N; Mouser Price/Stock: https://www.mouser.co.uk/ProductDetail/TRACO-Power/TEL-15-1211N?qs=T%252BzbugeAwjinmD6EwVNk%2Fg%3D%3D; Arrow Part Number: *; Arrow Price/Stock: *; Datasheet Link: https://tracopower.com/tel15n-datasheet/
footprint TEL151211N (TracoPower Tel 15-XXXXN Series footprint)
pins: 1 -VIN, 8 NC, 9 +VOUT, 10 -VOUT, 16 +VIN

## THD 15-1211N
designator VR?
TRACOPOWER THD 15N 15W Isolated DC-DC Converter Through Hole, Voltage in 9 → 18 V dc, Voltage out 5.1V dc
pins: 1 On/Off, 2 -Vin (GND) (power), 3 -Vin (GND) (power), 14 +Vout (power), 16 -Vout (power), 22 +Vin (Vcc) (power), 23 +Vin (Vcc) (power)

## TRACO_12vto5.1_151121
designator TRACO_?  Supplier Part Number 1: 495-TEL-15-1211  Supplier Part Number 2: 5106046  Supplier Part Number 3: 5106046P  Supplier Part Number 4: 1665605
TRACOPOWER TEL 15 15W Isolated DC-DC Converter Through Hole, Voltage in 9 → 18 V dc, Voltage out 5.1V dc; Supplier 1: Mouser; Supplier 2: RSComponents; Supplier 3: RSComponents; Supplier 4: RSComponents; Link: https://au.rs-online.com/web/p/isolated-dc-dc-converters/1665605/
footprint TRACO_12vto5.1_151121
pins: 1 -Vin (power), 2 -Vout (power), 3 +Vin (power), 4 +Vout (power)

## TS5205
designator VR?
150mA Low Noise LDO Voltage Regulator with Enable Function
footprint SOT-25 (SOT25, 5-Leads, Body 2.90x2.70mm, Pitch 0.95mm, IPC Medium Density)
pins: 1 VIN (power), 2 GND, 3 EN, 4 CBYP, 5 VOUT (power)